# EAGLE library part 1X10 (library connectors)
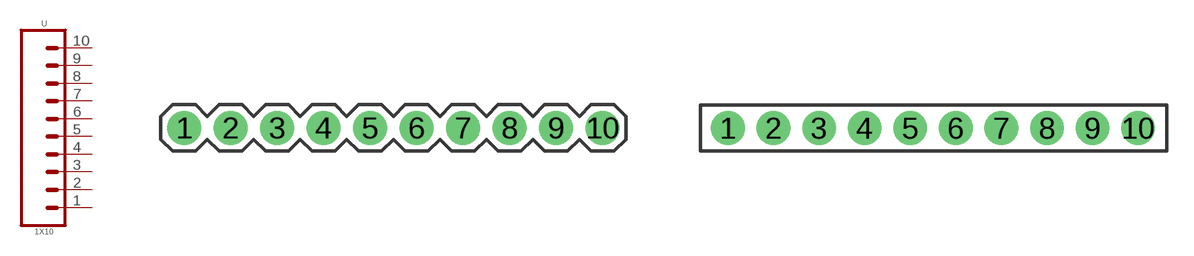
[diagram p3: symbol with the pads of 1X10-VERT-MALE; footprints 1X10-VERT-MALE, 1X10-VERT-FEMALE]

Designator prefix -

## 1X10VERT-MALE (CREATOR: Kenmei; DATASHEET: http://www.sullinscorp.com/catalogs/77_PAGE108-109_.100_MALE_HDR.pdf; DIST: Digikey; DISTLINK: https://www.digikey.com/products/en?keywords=PEC10SAAN; DISTPN: S1012E-10-ND; MFR: Sullins Connector Solutions; MPN: PEC10SAAN; TESTED: NO; VALUE: 1x10-VERT-MALE)  [1X10-VERT-MALE]
1  1  pas
2  2  pas
3  3  pas
4  4  pas
5  5  pas
6  6  pas
7  7  pas
8  8  pas
9  9  pas
10  10  pas

## 1X10VERT-FEMALE (CREATOR: Kenmei; DATASHEET: http://sullinscorp.com/catalogs/101_PAGE114-115_.100_FEMALE_HDR.pdf; DIST: Digikey; DISTLINK: https://www.digikey.com/products/en?mpart=PPPC101LFBN-RC&v=35; DISTPN: S7043-ND; MFR: Sullins Connector Solutions; MPN: PPPC101LFBN-RC; TESTED: NO; VALUE: 1x10-VERT-FEMALE)  [1X10-VERT-FEMALE]
Pads as for 1X10-VERT-MALE

## Footprint 1X10-VERT-MALE (pad centres in mm)
drill 1.016 pad 1.88: 1 -11.43,0; 2 -8.89,0; 3 -6.35,0; 4 -3.81,0; 5 -1.27,0; 6 1.27,0; 7 3.81,0; 8 6.35,0; 9 8.89,0; 10 11.43,0

## Footprint 1X10-VERT-FEMALE (pad centres in mm)
drill 1.016 pad 1.88: 1 -11.43,0; 2 -8.89,0; 3 -6.35,0; 4 -3.81,0; 5 -1.27,0; 6 1.27,0; 7 3.81,0; 8 6.35,0; 9 8.89,0; 10 11.43,0